# Altium integrated library Data Acquisition - Analog to Digital Converters (ADC).IntLib: 3 symbols
Pins are listed as number, name and electrical type; pins without a type are passive.

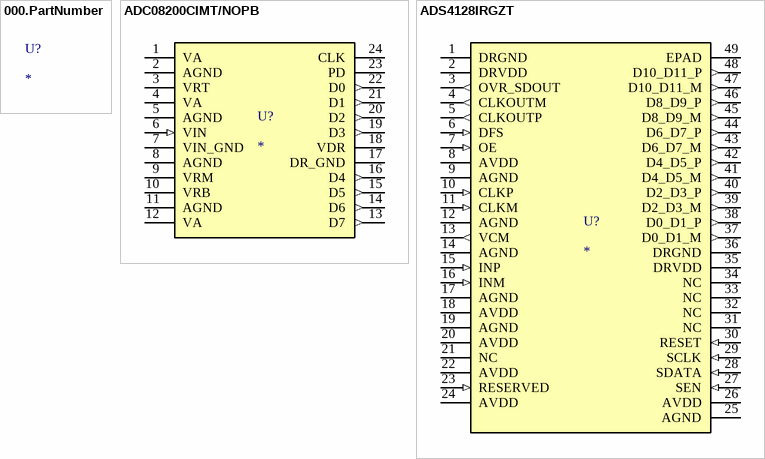
[diagram p0: symbols 000.PartNumber to ADS4128IRGZT]

## 000.PartNumber
designator U?
Digikey Description; Manufacturer: *; Series: *; Package: *; Number of Bits: *; Sampling Rate (Per Second): *; Number of Inputs: *; Input Type: *; Data Interface: *; Configuration: *; Ratio - S/H:ADC: *; Architecture: *; Reference Type: *; Voltage - Supply, Analog: *; Voltage - Supply, Digital: *; Features: *; Operating Temperature: *; Package / Case: *; Supplier Device Package: *; Mounting Type: *; Number of A/D Converters: *; Base Product Number: *; Ozdisan Link: *; Digikey Link: *; Farnell TR Link: *; Mouser Link: *

## ADC08200CIMT/NOPB
designator U?
IC ADC 8BIT PIPELINED 24TSSOP; Manufacturer: Texas Instruments; Number of Bits: 8; Sampling Rate (Per Second): 200 M; Number of Inputs: 1; Input Type: Single Ended; Data Interface: Parallel; Configuration: S/H-ADC; Ratio - S/H:ADC: 1:1; Reference Type: External; Voltage - Supply, Analog: 2.7V ~ 3.6V; Base Product Number: ADC08200; Series: -; Package: Tube; Architecture: Pipelined; Voltage - Supply, Digital: 2.7V ~ 3.6V; Features: -; Operating Temperature: -40°C ~ 85°C; Package / Case: 24-TSSOP (0.173", 4.40mm Width); Supplier Device Package: 24-TSSOP; Mounting Type: Surface Mount; Number of A/D Converters: 1; Ozdisan Link: -; Digikey Link: https://www.digikey.com/en/products/detail/texas-instruments/ADC08200CIMT-NOPB/482880?s=N4IgTCBcDaIIIBEDCAGAHGFKkEkCyAKgPQByA8gAoBCIAugL5A; Farnell TR Link: -; Mouser Link: https://www.mouser.com.tr/ProductDetail/Texas-Instruments/ADC08200CIMT-NOPB?qs=7X5t%252BdzoRHAf23TNwec6Xw%3D%3D
footprint TI_24-TSSOP
pins: 1 VA, 2 AGND, 3 VRT, 4 VA, 5 AGND, 6 VIN (in), 7 VIN_GND, 8 AGND, 9 VRM, 10 VRB, 11 AGND, 12 VA, 13 D7 (out), 14 D6 (out), 15 D5 (out), 16 D4 (out), 17 DR_GND, 18 VDR, 19 D3 (out), 20 D2 (out), 21 D1 (out), 22 D0 (out), 23 PD, 24 CLK

## ADS4128IRGZT
designator U?
IC ADC 12BIT PIPELINED 48VQFN; Manufacturer: Texas Instruments; Number of Bits: 12; Sampling Rate (Per Second): 200 M; Number of Inputs: 1; Input Type: Differential; Data Interface: LVDS - Parallel, Parallel; Configuration: S/H-ADC; Ratio - S/H:ADC: 1:1; Reference Type: Internal; Voltage - Supply, Analog: 1.7V ~ 1.9V; Base Product Number: ADS4128; Series: -; Package: Tape & Reel (TR); Architecture: Pipelined; Voltage - Supply, Digital: 1.7V ~ 1.9V; Features: -; Operating Temperature: -40°C ~ 85°C; Package / Case: 48-VFQFN Exposed Pad; Supplier Device Package: 48-VQFN (7x7); Mounting Type: Surface Mount; Number of A/D Converters: 1; Ozdisan Link: -; Digikey Link: https://www.digikey.com/en/products/detail/texas-instruments/ADS4128IRGZT/3458108; Farnell TR Link: -; Mouser Link: https://www.mouser.com.tr/ProductDetail/Texas-Instruments/ADS4128IRGZT?qs=l6ZoeTYLMwNXMFqaRNEDYA%3D%3D
footprint TI_48-VQFN (7x7)
pins: 1 DRGND (power), 2 DRVDD (power), 3 OVR_SDOUT (out), 4 CLKOUTM (out), 5 CLKOUTP (out), 6 DFS (in), 7 OE (in), 8 AVDD (power), 9 AGND (power), 10 CLKP (in), 11 CLKM (in), 12 AGND (power), 13 VCM (out), 14 AGND (power), 15 INP (in), 16 INM (in), 17 AGND (power), 18 AVDD (power), 19 AGND (power), 20 AVDD (power), 21 NC, 22 AVDD (power), 23 RESERVED (in), 24 AVDD (power), 25 AGND (power), 26 AVDD (power), 27 SEN (in), 28 SDATA (in), 29 SCLK (in), 30 RESET (in), 31 NC, 32 NC, 33 NC, 34 NC, 35 DRVDD (power), 36 DRGND (power), 37 D0_D1_M (out), 38 D0_D1_P (out), 39 D2_D3_M (out), 40 D2_D3_P (out), 41 D4_D5_M (out), 42 D4_D5_P (out), 43 D6_D7_M (out), 44 D6_D7_P (out), 45 D8_D9_M (out), 46 D8_D9_P (out), 47 D10_D11_M (out), 48 D10_D11_P (out), 49 EPAD